# Altium schematic symbol library CAP_22ufar_1210pkg.SchLib: 1 symbol
Pins are listed as number, name and electrical type; pins without a type are passive.

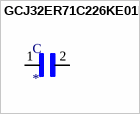
[diagram p0: symbol GCJ32ER71C226KE01L]

## GCJ32ER71C226KE01L
designator C
SMD Capacitor X7R_EIA_ with Capacitance: 22uF Tol. 10%. Rated Voltage: 16Vdc; MP: GCJ32ER71C226KE01L; MF: Murata; Price: None; Availability: Unavailable; Package: 3225 Murata; SnapEDA_Link: https://www.snapeda.com/parts/GCJ32ER71C226KE01L/Murata/view-part/4383175/?ref=snap; Value: *
footprint CAPC3225X280N
pins: 1, 2